# Altium schematic symbol library Libreria_Organo.SchLib: 18 symbols
Pins are listed as number, name and electrical type; pins without a type are passive.

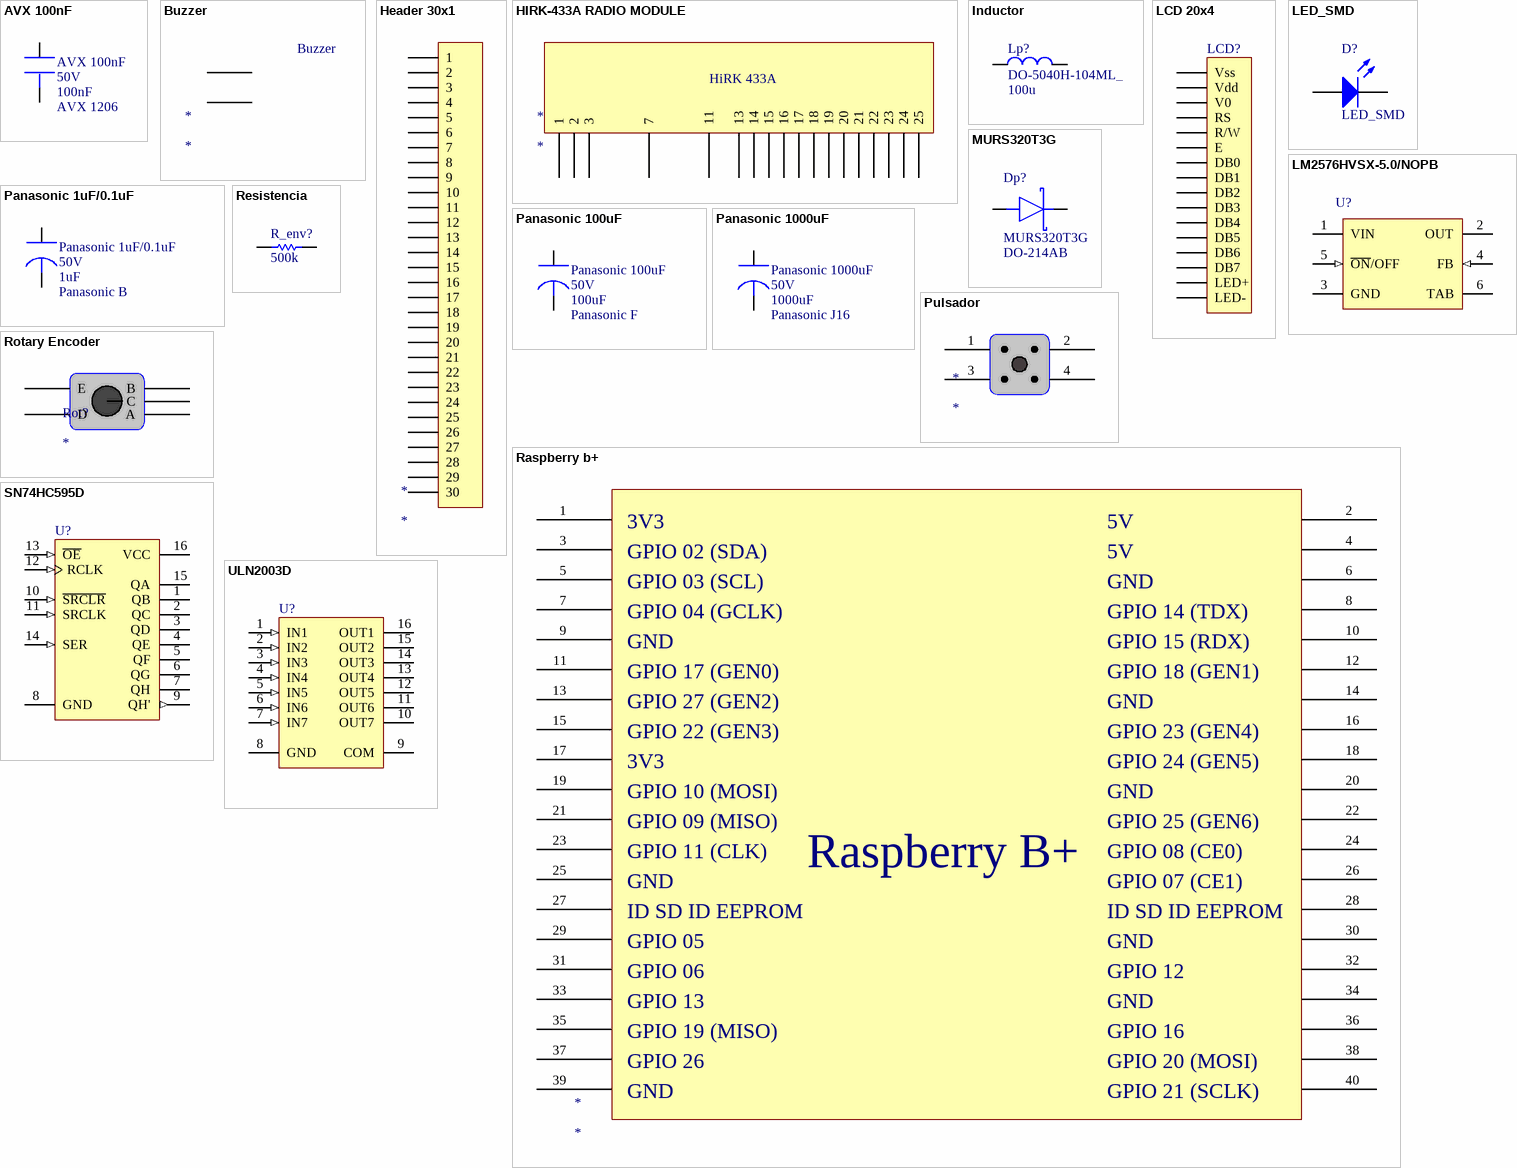
[diagram p0: symbols AVX 100nF to ULN2003D]

## AVX 100nF
designator AVX 100nF  value 100nF  Voltage Rating: 50V  PCB DECAL: AVX 1206  (hidden comment: AVX 100nF)
Condensador Cerámico SMD; Manufacturer #1: Nippon Chemi-Con; Part Number: EMV-500ADA101MJA0G; Tolerance: 20%; Ref. Mafero: 230; Author: Jaime Jiménez Ortega; Cost: 0,718€; Date: 21/05/2009; Distributor: RS; Ref Distributor: 5479063
footprint AVX Carcasa 1.206 (Molded Capacitor, 2-Leads, Body 3,20x1,60mm, IPC Medium Density)
pins: 1 (power), 2 (power)

## Buzzer
designator *
footprint Buzzer
pins: 1, 2

## Header 30x1
designator *
footprint Header 1X30
pins: 1, 2, 3, 4, 5, 6, 7, 8, 9, 10, 11, 12, 13, 14, 15, 16, 17, 18, 19, 20, 21, 22, 23, 24, 25, 26, 27, 28, 29, 30

## HIRK-433A RADIO MODULE
designator *
footprint HIRK-433A Radio Module (CFP, 54-Leads, Body 63,50x14,50mm (max), Pitch 2,54mm, IPC Medium Density)
pins: 1, 2, 3, 7, 11, 13, 14, 15, 16, 17, 18, 19, 20, 21, 22, 23, 24, 25
text: HiRK 433A

## Inductor
designator Lp?, comment DO-5040H-104ML_  value 100u
Inductor; Manufacturer #1: CoilCraft; Part Number: DO5040H-104ML_; PCB DECAL: DO-5040H 15uH-1400uH; Ref. Mafero: 1611; Author: Jaime Jiménez Ortega; Date: 22/05/2009; Distributor: Sagitron; Ref Distributor: DO5040H-104ML_
footprint DO-5040H 15uH-1400uH (Bobina coilcraft SMD DO-5040H válido para 15uH hasta 1400uH)
pins: 1, 2

## LCD 20x4
designator LCD?  (value not drawn)
LatestRevisionDate: 17-Jul-2002; LatestRevisionNote: Re-released for DXP Platform.; Publisher: Altium Limited
footprint LCD FORDATA (20x4) (LCD 4x20)
pins: 1 Vss "GND", 2 Vdd "Power Supply", 3 V0 "Contrast Adjust", 4 RS "Register Selecto Signal", 5 R/W "Data R/W", 6 E "Enable signal", 7 DB0, 8 DB1, 9 DB2, 10 DB3, 11 DB4, 12 DB5, 13 DB6, 14 DB7, 15 LED+ "LED Power (+)", 16 LED- "LED Power (-)"

## LED_SMD
designator D?
LED SMD; Published: 8-Jun-2000; LatestRevisionDate: 08-Jul-2005; LatestRevisionNote: Mech Layer 1 removed.; PackageReference: LED-0; Publisher: Altium Limited
footprint LED_0805
pins: 1 A, 2 K

## LM2576HVSX-5.0/NOPB
designator U?
SIMPLE SWITCHER® 3A Step-Down Voltage Regulator, 5-pin TO-263, Pb-Free; PartNumber: LM2576HVSX-5.0/NOPB; Manufacturer: National Semiconductor; PackageTopMarking: NSUZXYTTE#*LM2576*HVS-5.0 P+; PowerWise: N; Published: 1-Mar-2010; DatasheetVersion: Aug-2004; PackageVersion: revD, Apr-2005; PackageReference: TS5B; Publisher: Altium Limited; PackageDescription: TO-263, Molded, .400 x .390 x .180in, 5 Lead, .067in Pitch, Surface Mount; Supplier 1: Digi-Key; Supplier Part Number 1: LM2576HVSX-5.0-ND; RoHS: Y; PinCount: 5; CompType: Switcher; Code_JEDEC: MO-169-AB; ComponentLink1Description: LM2576HV Datasheet; ComponentLink1URL: http://www.national.com/ds/LM/LM2576HV.pdf; ComponentLink2Description: LM2576HV Web Page; ComponentLink2URL: http://www.national.com/pf/LM/LM2576HV.html; ComponentLink3Description: TS5B Package Page; ComponentLink3URL: http://www.national.com/packaging/folders/ts5b.html
footprint TS5B_N_ (D2-PAK, 6-Leads, Body 8.6x10.2mm, Pitch 1.7mm, Lead Span 14.1mm, IPC Medium Density)
pins: 1 VIN (power), 2 OUT (power), 3 GND (power), 4 FB (in), 5 ~{ON}/OFF (in), 6 TAB (power)

## MURS320T3G
designator Dp?  PCB DECAL: DO-214AB
Surface Mount Schottky-Rectifiers; Manufacturer #1: On Semiconductor; Ref. Mafero: 1171; Author: Jaime Jiménez Ortega; Date: 22/05/2009; Distributor: Farnell; Part Number: MURS320T3G; Ref Distributor: 9557555
footprint DO-214AB
pins: A, K

## Panasonic 1uF/0.1uF
designator Panasonic 1uF/0.1uF  value 1uF  Voltage Rating: 50V  PCB DECAL: Panasonic B  (hidden comment: Panasonic 1uF/0.1uF)
Condensador Electrolítico SMD; Manufacturer #1: Nippon Chemi-Con; Part Number: EMV-500ADA101MJA0G; Tolerance: 20%; Ref. Mafero: 230; Author: Jaime Jiménez Ortega; Cost: 0,718€; Date: 21/05/2009; Distributor: RS; Ref Distributor: 5479063
footprint Panasonic B Size (Molded Capacitor, 2-Leads, Body 4,30x4,30mm, IPC Medium Density)
pins: 1 (power), 2 (power)

## Panasonic 100uF
designator Panasonic 100uF  value 100uF  Voltage Rating: 50V  PCB DECAL: Panasonic F  (hidden comment: Panasonic 100uF)
Condensador Electrolítico SMD; Manufacturer #1: Nippon Chemi-Con; Part Number: EMV-500ADA101MJA0G; Tolerance: 20%; Ref. Mafero: 230; Author: Jaime Jiménez Ortega; Cost: 0,718€; Date: 21/05/2009; Distributor: RS; Ref Distributor: 5479063
footprint Panasonic F Size (Molded Capacitor, 2-Leads, Body 8,30x8,30mm, IPC Medium Density)
pins: 1 (power), 2 (power)

## Panasonic 1000uF
designator Panasonic 1000uF  value 1000uF  Voltage Rating: 50V  PCB DECAL: Panasonic J16  (hidden comment: Panasonic 1000uF)
Condensador Electrolítico SMD; Manufacturer #1: Nippon Chemi-Con; Part Number: EMV-500ADA101MJA0G; Tolerance: 20%; Ref. Mafero: 230; Author: Jaime Jiménez Ortega; Cost: 0,718€; Date: 21/05/2009; Distributor: RS; Ref Distributor: 5479063
footprint Panasonic J16 Size (Molded Capacitor, 2-Leads, Body 17,00x17,00mm, IPC Medium Density)
pins: 1 (power), 2 (power)

## Pulsador
designator *
footprint Pulsador
pins: 1, 2, 3, 4

## Raspberry b+
designator *
footprint Raspberry (Connector; Header; 20x2 Position)
pins: 1, 2, 3, 4, 5, 6, 7, 8, 9, 10, 11, 12, 13, 14, 15, 16, 17, 18, 19, 20, 21, 22, 23, 24, 25, 26, 27, 28, 29, 30, 31, 32, 33, 34, 35, 36, 37, 38, 39, 40
text: 3V3; 5V; GPIO 02 (SDA); GPIO 03 (SCL); GND; GPIO 04 (GCLK); GPIO 14 (TDX); GPIO 15 (RDX); GPIO 17 (GEN0); GPIO 18 (GEN1); GPIO 27 (GEN2); GPIO 22 (GEN3); GPIO 23 (GEN4); GPIO 24 (GEN5); GPIO 10 (MOSI); GPIO 09 (MISO); GPIO 25 (GEN6); GPIO 11 (CLK); GPIO 08 (CE0); Raspberry B+; GPIO 07 (CE1); ID SD ID EEPROM; GPIO 05; GPIO 06; GPIO 12; GPIO 13; GPIO 19 (MISO); GPIO 16; GPIO 26; GPIO 20 (MOSI); GPIO 21 (SCLK)

## Resistencia
designator R_env?, comment value 500k  (hidden comment: Res Chip 0805)
Published: 8-Jun-2000; LatestRevisionDate: 17-Jul-2002; LatestRevisionNote: Re-released for DXP Platform.; PackageReference: AXIAL-0.3; Publisher: Altium Limited; PackageDescription: Axial Device, Thru-Hole; 2 Leads; 0.3 in Pin Spacing
footprint Resistencia_0805_N (Chip Resistor, Body 2.0x1.2mm, IPC Medium Density)
pins: 1, 2

## Rotary Encoder
designator Rot?
Rotary Encoder
footprint RotaryPCB
pins: A "Rotary2", B "Rotary1", C "RotaryCommon", D "Switch2", E "Switch1"

## SN74HC595D
designator U?
8-Bit Shift Register with 3-State Output Registers; Published: 8-Jun-2000; LatestRevisionDate: 13-Apr-2006; LatestRevisionNote: IPC-7351 Footprint Added.; DatasheetVersion: May-1997; PackageVersion: Jan-1998; PackageReference: D016; Publisher: Altium Limited; PackageDescription: 16-Pin Small Outline Integrated Circuit 1.27 mm Pitch; Code_IPC: SOIC127P600-16; ComponentLink1Description: Manufacturer Link; ComponentLink1URL: http://www.ti.com/; ComponentLink2Description: Datasheet; ComponentLink2URL: http://www-s.ti.com/sc/ds/sn74hc595.pdf
footprint SN74HC595D (SOIC, 16-Leads, Body 9.9x3.9mm, Pitch 1.27mm, IPC Medium Density)
pins: 1 QB (hiz), 2 QC (hiz), 3 QD (hiz), 4 QE (hiz), 5 QF (hiz), 6 QG (hiz), 7 QH (hiz), 8 GND (power), 9 QH' (out), 10 ~{SRCLR} (in), 11 SRCLK (in), 12 RCLK (in), 13 ~{OE} (in), 14 SER (in), 15 QA (hiz), 16 VCC (power)

## ULN2003D
designator U?
Seven Darlington Array; Published: 8-Jun-2000; LatestRevisionDate: 13-Apr-2006; LatestRevisionNote: IPC-7351 Footprint Added.; DatasheetVersion: Sep-1998; PackageVersion: May-1998; PackageReference: SO16; Publisher: Altium Limited; PackageDescription: 16-Pin Small Outline Integrated Circuit 1.27 mm Pitch; Code_IPC: SOIC127P600-16; ComponentLink1Description: Manufacturer Link; ComponentLink1URL: http://www.st.com/; ComponentLink2Description: Datasheet; ComponentLink2URL: http://www.st.com/stonline/products/literature/ds/5279/uln2001.pdf
footprint ULN2003AI (SOIC, 16-Leads, Body 9.9x3.9mm, Pitch 1.27mm, IPC Medium Density)
pins: 1 IN1 (in), 2 IN2 (in), 3 IN3 (in), 4 IN4 (in), 5 IN5 (in), 6 IN6 (in), 7 IN7 (in), 8 GND (power), 9 COM, 10 OUT7 (oc), 11 OUT6 (oc), 12 OUT5 (oc), 13 OUT4 (oc), 14 OUT3 (oc), 15 OUT2 (oc), 16 OUT1 (oc)